# EAGLE library part PINHD-1X19 (library pinhead+)
PIN HEADER
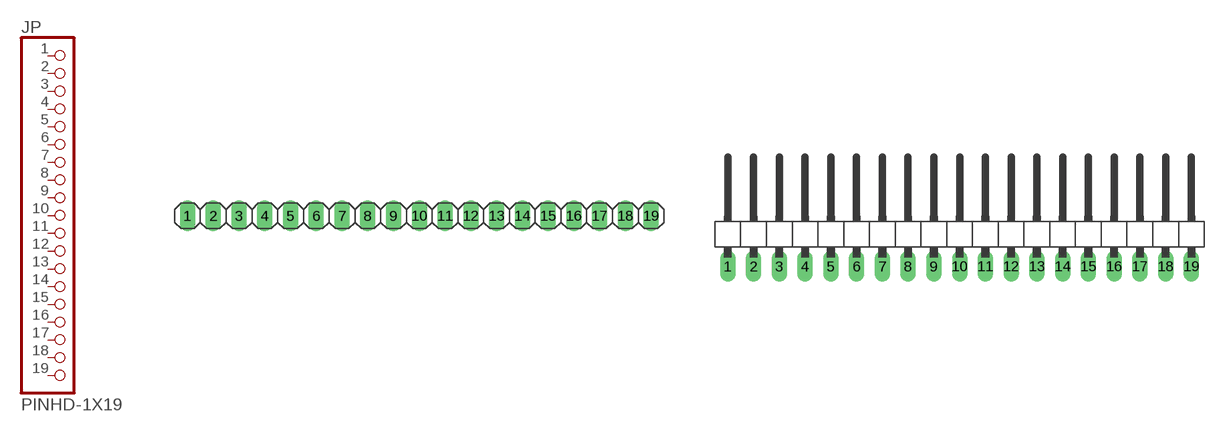
[diagram p13: symbol with the pads of 1X19; footprints 1X19, 1X19/90]

Designator prefix JP

## PINHD-1X19  [1X19]
1  1  pas
2  2  pas
3  3  pas
4  4  pas
5  5  pas
6  6  pas
7  7  pas
8  8  pas
9  9  pas
10  10  pas
11  11  pas
12  12  pas
13  13  pas
14  14  pas
15  15  pas
16  16  pas
17  17  pas
18  18  pas
19  19  pas

## PINHD-1X19/90  [1X19/90]
Pads as for 1X19

## PINHD-1X191X19_SMT  [1X19_SMT]
Pads as for 1X19

## Footprint 1X19 (pad centres in mm)
PIN HEADER
drill 1.016 long: 1 -22.86,0; 2 -20.32,0; 3 -17.78,0; 4 -15.24,0; 5 -12.7,0; 6 -10.16,0; 7 -7.62,0; 8 -5.08,0; 9 -2.54,0; 10 0,0; 11 2.54,0; 12 5.08,0; 13 7.62,0; 14 10.16,0; 15 12.7,0; 16 15.24,0; 17 17.78,0; 18 20.32,0; 19 22.86,0

## Footprint 1X19/90 (pad centres in mm)
PIN HEADER
drill 1.016 long: 1 -22.86,-3.81; 2 -20.32,-3.81; 3 -17.78,-3.81; 4 -15.24,-3.81; 5 -12.7,-3.81; 6 -10.16,-3.81; 7 -7.62,-3.81; 8 -5.08,-3.81; 9 -2.54,-3.81; 10 0,-3.81; 11 2.54,-3.81; 12 5.08,-3.81; 13 7.62,-3.81; 14 10.16,-3.81; 15 12.7,-3.81; 16 15.24,-3.81; 17 17.78,-3.81; 18 20.32,-3.81; 19 22.86,-3.81

## Footprint 1X19_SMT (pad centres in mm)
smd 1 x 2.5: 1 -22.86,1.52; 2 -20.32,-1.52; 3 -17.78,1.52; 4 -15.24,-1.52; 5 -12.7,1.52; 6 -10.16,-1.52; 7 -7.62,1.52; 8 -5.08,-1.52; 9 -2.54,1.52; 10 0,-1.52; 11 2.54,1.52; 12 5.08,-1.52; 13 7.62,1.52; 14 10.16,-1.52; 15 12.7,1.52; 16 15.24,-1.52; 17 17.78,1.52; 18 20.32,-1.52; 19 22.86,1.52